# EAGLE library part AE-NJU72501 (library ProjectOnly5)
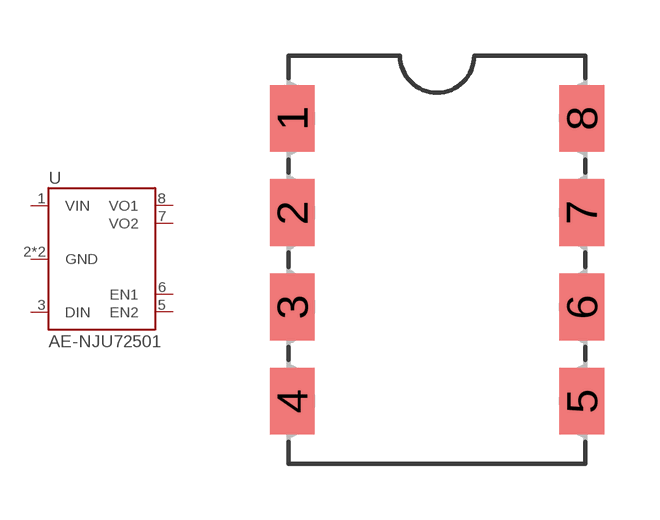
[diagram p1: symbol with the pads of AE-NJU72501; footprint AE-NJU72501]

Designator prefix U

## AE-NJU72501  [AE-NJU72501]
1  VIN
2  GND
3  DIN
4  GND
5  EN2
6  EN1
7  VO2
8  VO1

## Footprint AE-NJU72501 (pad centres in mm)
smd 1.2 x 1.8: 1 -3.9,3.81; 2 -3.9,1.27; 3 -3.9,-1.27; 4 -3.9,-3.81; 5 3.9,-3.81; 6 3.9,-1.27; 7 3.9,1.27; 8 3.9,3.81